# EAGLE library part DIN5P180 (library Stecker_Pins)
Din-Stecker, 5pol, 180°
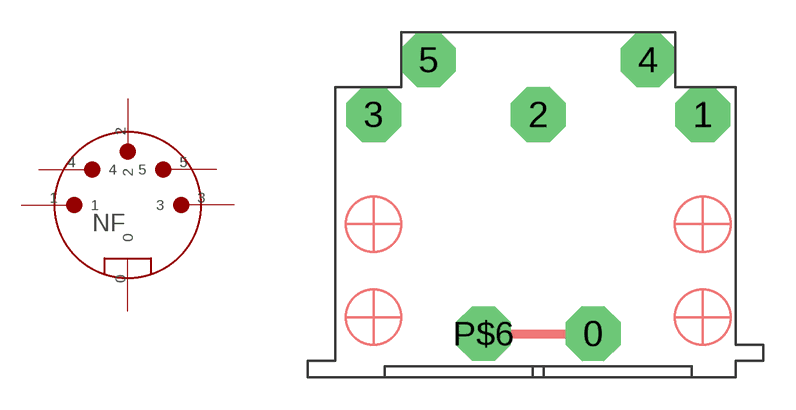
[diagram p4: symbol with the pads of DIN5P180; footprint DIN5P180]

Designator prefix NF

## DIN5P180  [DIN5P180]
0  0
1  1
2  2
3  3
4  4
5  5

## Footprint DIN5P180 (pad centres in mm)
drill 0.8 pad 2.54 octagon: 0 10.16,-10.16; 1 15.24,0; 2 7.62,0; 3 0,0; 4 12.7,2.54; 5 2.54,2.54; P$6 5.08,-10.16